# Altium schematic symbol library Course Project (2).SchLib: 23 symbols
Pins are listed as number, name and electrical type; pins without a type are passive.

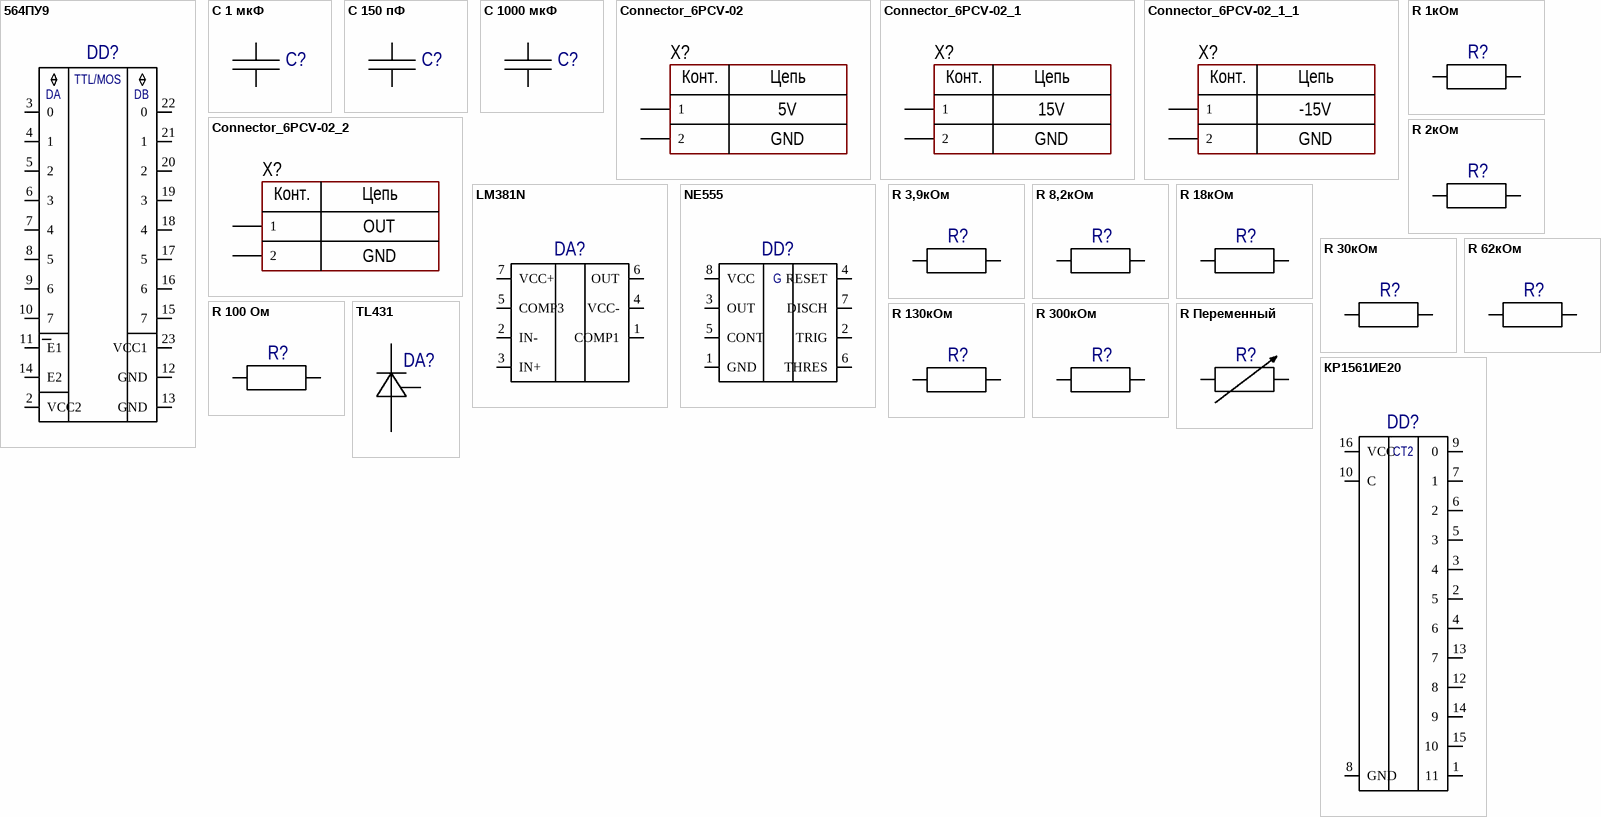
[diagram p0: symbols 564ПУ9 to КР1561ИЕ20]

## 564ПУ9
designator DD?, comment Микросхема 564ПУ9 бК0.347.064-36 ТУ  (value not drawn)
pins: 2 VCC2, 3 0, 4 1, 5 2, 6 3, 7 4, 8 5, 9 6, 10 7, 11 E1, 12 GND, 13 GND, 14 E2, 15 7, 16 6, 17 5, 18 4, 19 3, 20 2, 21 1, 22 0, 23 VCC1
text: TTL/MOS; DA; DB

## C 1 мкФ
designator C?, comment К10-17Б-М47-1 мкФ ±10% В ОЖО.460.172 ТУ  (value not drawn)
pins: 1, 2

## C 150 пФ
designator C?, comment К10-17Б-М47-150 пФ ±10% В ОЖО.460.172 ТУ  (value not drawn)
pins: 1, 2

## C 1000 мкФ
designator C?, comment К50-20 1000 мкФ ±10% В ОЖО.464.183 ТУ  (value not drawn)
pins: 1, 2

## Connector_6PCV-02
designator X?
+5V/GND; Manufacturer: TE Connectivity; ValueManufacturerPartNumber: Connector, 2pin, 9.53mm, 300VAC, 25A; PartNumber: 6PCV-02-006; TypeConnector: Connector; VoltageMax: 300VAC; Pitch: 9.53mm; CurrentMax: 25A; Multichannel: 2pin; HelpURL: https://www.digikey.com/products/en?keywords=6PCV-02-006
footprint CON: 6PCV-02-006
pins: 1, 2
text: Конт.; Цепь; 5V; GND

## Connector_6PCV-02_1
designator X?
+15V/GND; Manufacturer: TE Connectivity; ValueManufacturerPartNumber: Connector, 2pin, 9.53mm, 300VAC, 25A; PartNumber: 6PCV-02-006; TypeConnector: Connector; VoltageMax: 300VAC; Pitch: 9.53mm; CurrentMax: 25A; Multichannel: 2pin; HelpURL: https://www.digikey.com/products/en?keywords=6PCV-02-006
footprint CON: 6PCV-02-006
pins: 1, 2
text: Конт.; Цепь; 15V; GND

## Connector_6PCV-02_1_1
designator X?
-15V/GND; Manufacturer: TE Connectivity; ValueManufacturerPartNumber: Connector, 2pin, 9.53mm, 300VAC, 25A; PartNumber: 6PCV-02-006; TypeConnector: Connector; VoltageMax: 300VAC; Pitch: 9.53mm; CurrentMax: 25A; Multichannel: 2pin; HelpURL: https://www.digikey.com/products/en?keywords=6PCV-02-006
footprint CON: 6PCV-02-006
pins: 1, 2
text: Конт.; Цепь; -15V; GND

## Connector_6PCV-02_2
designator X?
OUT/GND; Manufacturer: TE Connectivity; ValueManufacturerPartNumber: Connector, 2pin, 9.53mm, 300VAC, 25A; PartNumber: 6PCV-02-006; TypeConnector: Connector; VoltageMax: 300VAC; Pitch: 9.53mm; CurrentMax: 25A; Multichannel: 2pin; HelpURL: https://www.digikey.com/products/en?keywords=6PCV-02-006
footprint CON: 6PCV-02-006
pins: 1, 2
text: Конт.; Цепь; OUT; GND

## LM381N
designator DA?, comment Микросхема LM318N  (value not drawn)
pins: 1 COMP1, 2 IN-, 3 IN+, 4 VCC-, 5 COMP3, 6 OUT, 7 VCC+

## NE555
designator DD?, comment Микросхема NE555  (value not drawn)
pins: 1 GND, 2 TRIG, 3 OUT, 4 RESET, 5 CONT, 6 THRES, 7 DISCH, 8 VCC
text: G

## R 1кОм
designator R?, comment Резистор С1-4-0,25-1 кОм ±5% АПШК.434110.001 ТУ  (value not drawn)
pins: 1, 2

## R 2кОм
designator R?, comment Резистор С1-4-0,25-2 кОм ±5% АПШК.434110.001 ТУ  (value not drawn)
pins: 1, 2

## R 3,9кОм
designator R?, comment Резистор С1-4-0,25-3,9 кОм ±5% АПШК.434110.001 ТУ  (value not drawn)
pins: 1, 2

## R 8,2кОм
designator R?, comment Резистор С1-4-0,25-8,2 кОм ±5% АПШК.434110.001 ТУ  (value not drawn)
pins: 1, 2

## R 18кОм
designator R?, comment Резистор С1-4-0,25-18 кОм ±5% АПШК.434110.001 ТУ  (value not drawn)
pins: 1, 2

## R 30кОм
designator R?, comment Резистор С1-4-0,25-30 кОм ±5% АПШК.434110.001 ТУ  (value not drawn)
pins: 1, 2

## R 62кОм
designator R?, comment Резистор С1-4-0,25-62 кОм ±5% АПШК.434110.001 ТУ  (value not drawn)
pins: 1, 2

## R 100 Ом
designator R?, comment Резистор С1-4-0,25-1 кОм ±5% АПШК.434110.001 ТУ  (value not drawn)
pins: 1, 2

## R 130кОм
designator R?, comment Резистор С1-4-0,25-130 кОм ±5% АПШК.434110.001 ТУ  (value not drawn)
pins: 1, 2

## R 300кОм
designator R?, comment Резистор С1-4-0,25-300 кОм ±5% АПШК.434110.001 ТУ  (value not drawn)
pins: 1, 2

## R Переменный
designator R?, comment Резистор переменный СП3-4АМ-0,125-4,7 кОм ОЖ0.468.404 ТУ  (value not drawn)
pins: 1, 2

## TL431
designator DA?, comment Микросхема TL431  (value not drawn)
pins: 1, 2, 3

## КР1561ИЕ20
designator DD?, comment Микросхема КР1561ИЕ20 бК0.348.794-16ТУ  (value not drawn)
pins: 1 11, 2 5, 3 4, 4 6, 5 3, 6 2, 7 1, 8 GND, 9 0, 10 C, 12 8, 13 7, 14 9, 15 10, 16 VCC
text: CT2